# Altium schematic symbol library headers.SchLib: 1 symbol
Pins are listed as number, name and electrical type; pins without a type are passive.

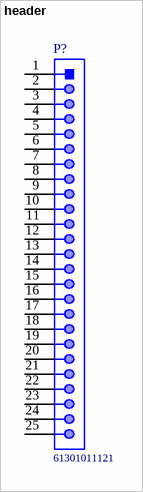
[diagram p0: symbol header]

## header
designator P?, comment 61301011121
THT Vertical Pin Header WR-PHD, Pitch 2.54 mm, Single Row, 25 pins
footprint 61301011121 (Pin Header, pitch 2.54 mm, THT, Vertical, single row, 10p)
pins: 1, 2, 3, 4, 5, 6, 7, 8, 9, 10, 11, 12, 13, 14, 15, 16, 17, 18, 19, 20, 21, 22, 23, 24, 25